# EAGLE library part MC68EZ328 (library untitled)
Motorola DragonBall MC68EZ328 Integrated Portable System Processor
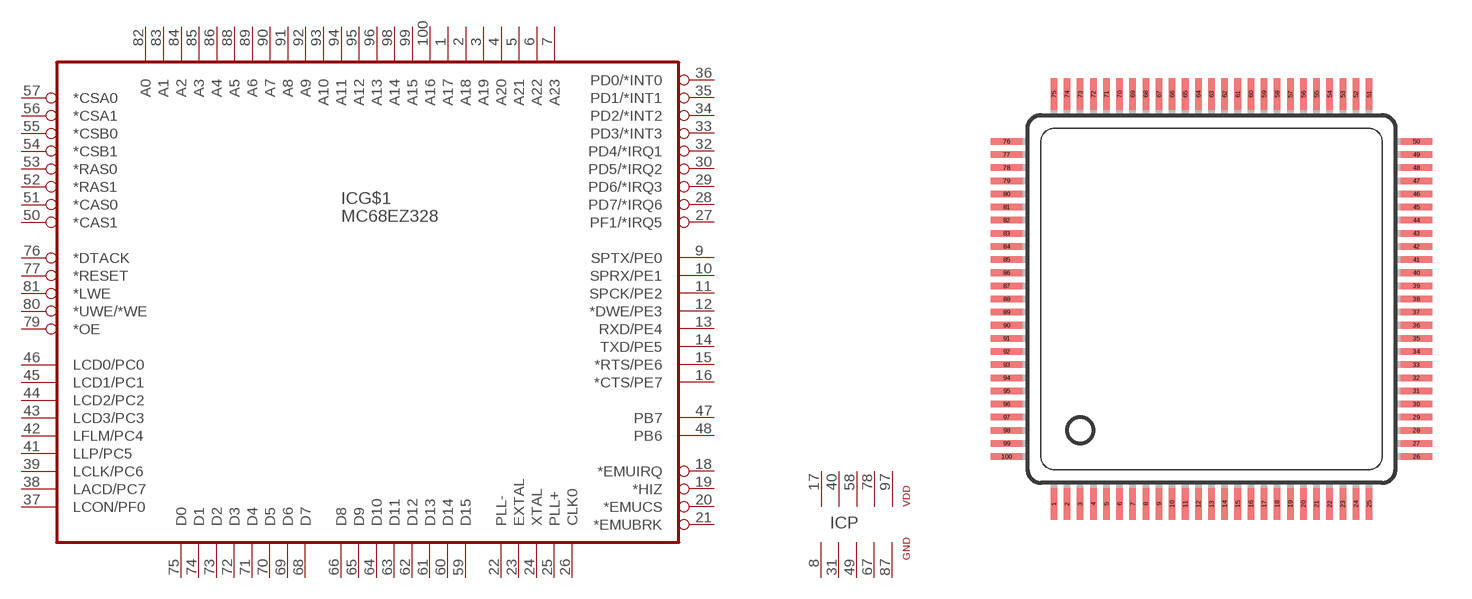
[diagram p6: symbol with the pads of TQFP100; footprint TQFP100]

Designator prefix IC; gates G$1=MC68EZ32 P=PWR328

## MC68EZ328  [TQFP100]
1  G$1:A17
2  G$1:A18
3  G$1:A19
4  G$1:A20
5  G$1:A21
6  G$1:A22
7  G$1:A23
8  P:GND  pas
9  G$1:SPTX/PE0
10  G$1:SPRX/PE1
11  G$1:SPCK/PE2
12  G$1:*DWE/PE3
13  G$1:RXD/PE4
14  G$1:TXD/PE5
15  G$1:*RTS/PE6
16  G$1:*CTS/PE7
17  P:VDD  pas
18  G$1:*EMUIRQ
19  G$1:*HIZ
20  G$1:*EMUCS
21  G$1:*EMUBRK
22  G$1:PLL-
23  G$1:EXTAL
24  G$1:XTAL
25  G$1:PLL+
26  G$1:CLK0
27  G$1:PF1/*IRQ5
28  G$1:PD7/*IRQ6
29  G$1:PD6/*IRQ3
30  G$1:PD5/*IRQ2
31  P:GND  pas
32  G$1:PD4/*IRQ1
33  G$1:PD3/*INT3
34  G$1:PD2/*INT2
35  G$1:PD1/*INT1
36  G$1:PD0/*INT0
37  G$1:LCON/PF0
38  G$1:LACD/PC7
39  G$1:LCLK/PC6
40  P:VDD  pas
41  G$1:LLP/PC5
42  G$1:LFLM/PC4
43  G$1:LCD3/PC3
44  G$1:LCD2/PC2
45  G$1:LCD1/PC1
46  G$1:LCD0/PC0
47  G$1:PB7
48  G$1:PB6
49  P:GND  pas
50  G$1:*CAS1
51  G$1:*CAS0
52  G$1:*RAS1
53  G$1:*RAS0
54  G$1:*CSB1
55  G$1:*CSB0
56  G$1:*CSA1
57  G$1:*CSA0
58  P:VDD  pas
59  G$1:D15
60  G$1:D14
61  G$1:D13
62  G$1:D12
63  G$1:D11
64  G$1:D10
65  G$1:D9
66  G$1:D8
67  P:GND  pas
68  G$1:D7
69  G$1:D6
70  G$1:D5
71  G$1:D4
72  G$1:D3
73  G$1:D2
74  G$1:D1
75  G$1:D0
76  G$1:*DTACK
77  G$1:*RESET
78  P:VDD  pas
79  G$1:*OE
80  G$1:*UWE/*WE
81  G$1:*LWE
82  G$1:A0
83  G$1:A1
84  G$1:A2
85  G$1:A3
86  G$1:A4
87  P:GND  pas
88  G$1:A5
89  G$1:A6
90  G$1:A7
91  G$1:A8
92  G$1:A9
93  G$1:A10
94  G$1:A11
95  G$1:A12
96  G$1:A13
97  P:VDD  pas
98  G$1:A14
99  G$1:A15
100  G$1:A16

## Footprint TQFP100 (pad centres in mm)
smd 0.25 x 1.2: 1 -6,-7.8; 2 -5.5,-7.8; 3 -5,-7.8; 4 -4.5,-7.8; 5 -4,-7.8; 6 -3.5,-7.8; 7 -3,-7.8; 8 -2.5,-7.8; 9 -2,-7.8; 10 -1.5,-7.8; 11 -1,-7.8; 12 -0.5,-7.8; 13 0,-7.8; 14 0.5,-7.8; 15 1,-7.8; 16 1.5,-7.8; 17 2,-7.8; 18 2.5,-7.8; 19 3,-7.8; 20 3.5,-7.8; 21 4,-7.8; 22 4.5,-7.8; 23 5,-7.8; 24 5.5,-7.8; 25 6,-7.8; 51 6,7.8; 52 5.5,7.8; 53 5,7.8; 54 4.5,7.8; 55 4,7.8; 56 3.5,7.8; 57 3,7.8; 58 2.5,7.8; 59 2,7.8; 60 1.5,7.8; 61 1,7.8; 62 0.5,7.8; 63 0,7.8; 64 -0.5,7.8; 65 -1,7.8; 66 -1.5,7.8; 67 -2,7.8; 68 -2.5,7.8; 69 -3,7.8; 70 -3.5,7.8; 71 -4,7.8; 72 -4.5,7.8; 73 -5,7.8; 74 -5.5,7.8; 75 -6,7.8
smd 1.2 x 0.25: 26 7.8,-6; 27 7.8,-5.5; 28 7.8,-5; 29 7.8,-4.5; 30 7.8,-4; 31 7.8,-3.5; 32 7.8,-3; 33 7.8,-2.5; 34 7.8,-2; 35 7.8,-1.5; 36 7.8,-1; 37 7.8,-0.5; 38 7.8,0; 39 7.8,0.5; 40 7.8,1; 41 7.8,1.5; 42 7.8,2; 43 7.8,2.5; 44 7.8,3; 45 7.8,3.5; 46 7.8,4; 47 7.8,4.5; 48 7.8,5; 49 7.8,5.5; 50 7.8,6; 76 -7.8,6; 77 -7.8,5.5; 78 -7.8,5; 79 -7.8,4.5; 80 -7.8,4; 81 -7.8,3.5; 82 -7.8,3; 83 -7.8,2.5; 84 -7.8,2; 85 -7.8,1.5; 86 -7.8,1; 87 -7.8,0.5; 88 -7.8,0; 89 -7.8,-0.5; 90 -7.8,-1; 91 -7.8,-1.5; 92 -7.8,-2; 93 -7.8,-2.5; 94 -7.8,-3; 95 -7.8,-3.5; 96 -7.8,-4; 97 -7.8,-4.5; 98 -7.8,-5; 99 -7.8,-5.5; 100 -7.8,-6